# Altium schematic symbol library SCH_IntegratedCircuit.SchLib: 77 symbols
Pins are listed as number, name and electrical type; pins without a type are passive.

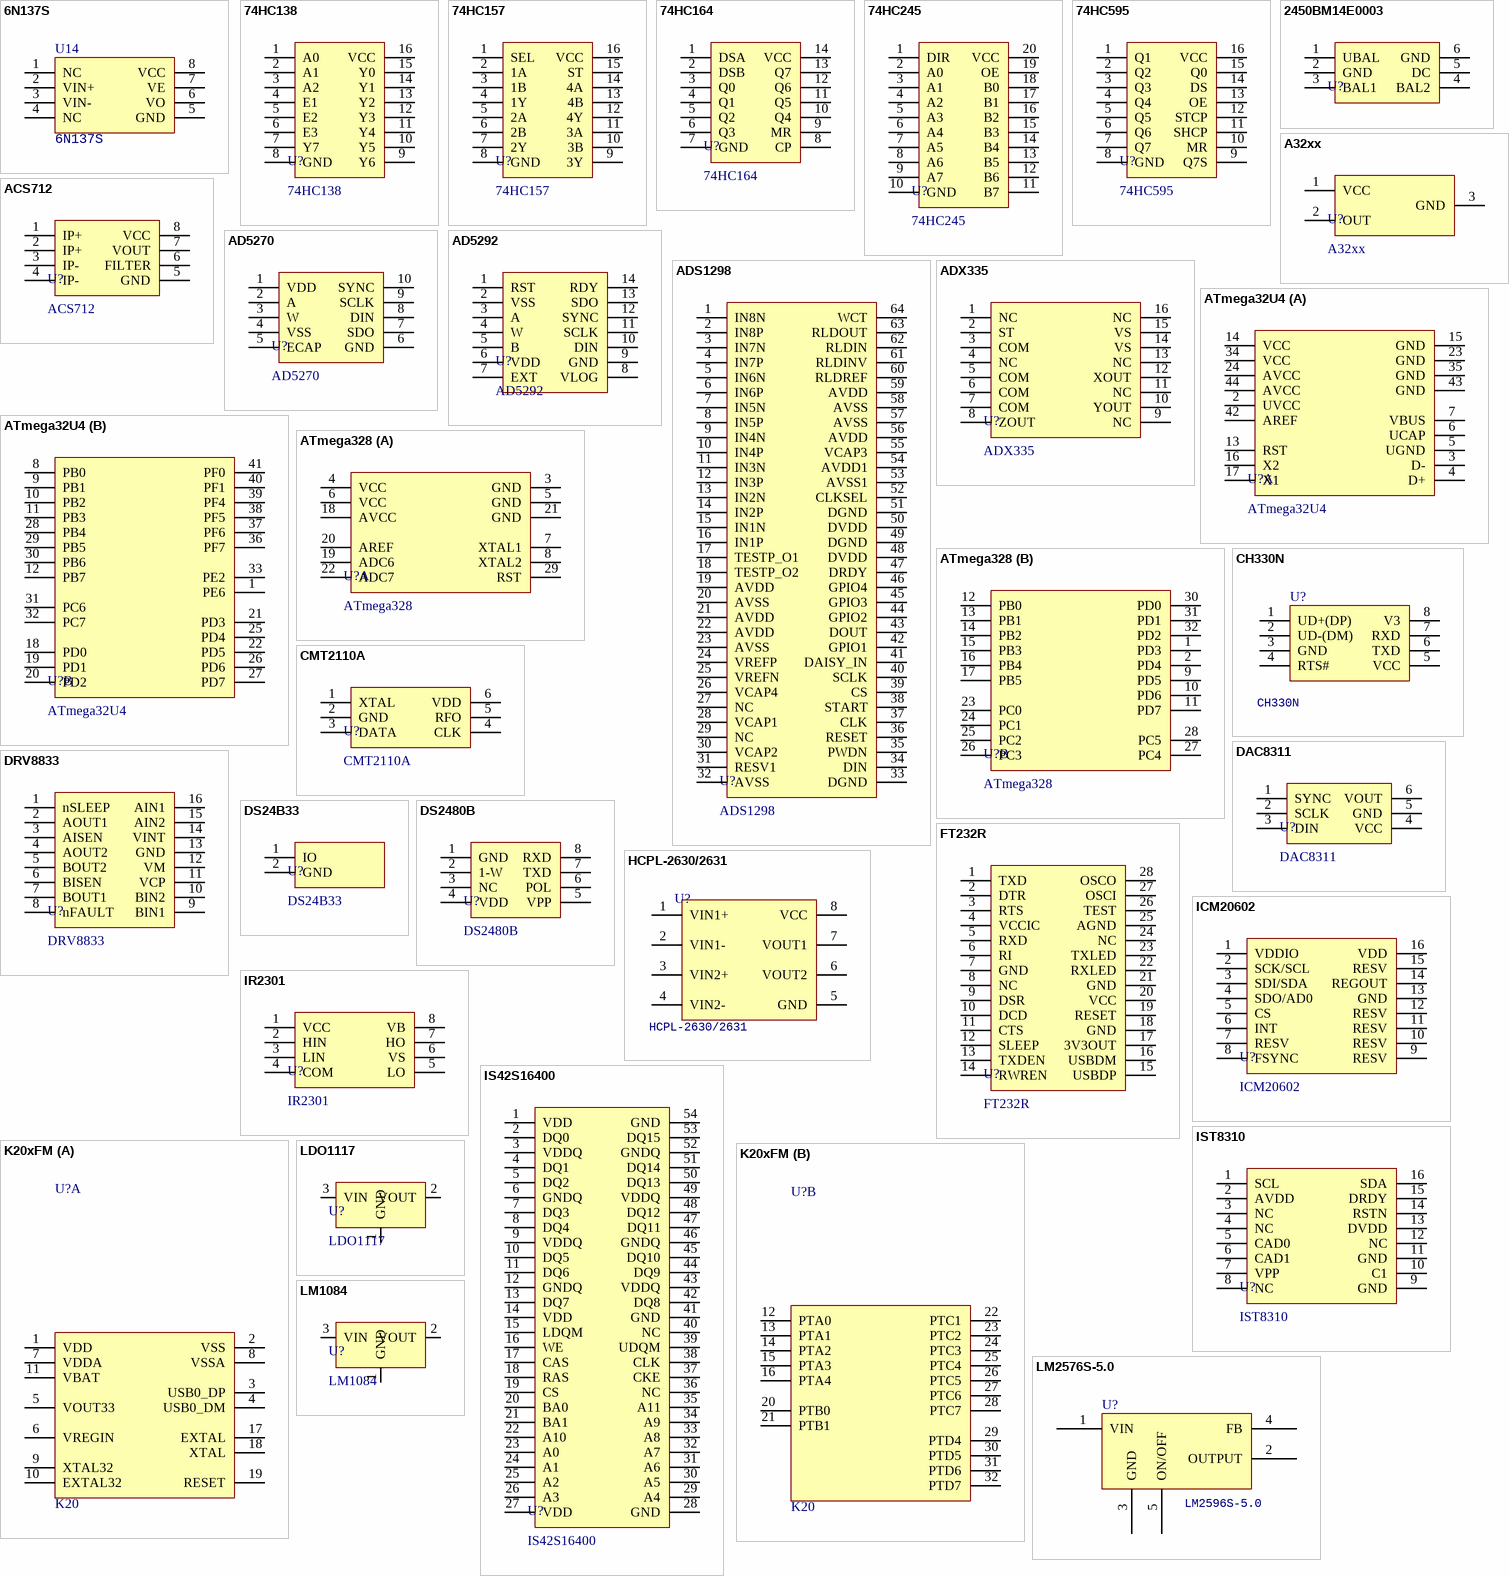
[diagram p0: symbols 6N137S to LM2576S-5.0]

## 6N137S
designator U14
Optoisolator HighSpeed; value: 6N137S
footprint SMD_8
pins: 1 NC, 2 VIN+, 3 VIN-, 4 NC, 5 GND, 6 VO, 7 VE, 8 VCC

## 74HC138
designator U?
74 Series
footprint SOP_E150_16
pins: 1 A0, 2 A1, 3 A2, 4 E1, 5 E2, 6 E3, 7 Y7, 8 GND, 9 Y6, 10 Y5, 11 Y4, 12 Y3, 13 Y2, 14 Y1, 15 Y0, 16 VCC

## 74HC157
designator U?
74 Series
footprint SOP_E150_16
pins: 1 SEL, 2 1A, 3 1B, 4 1Y, 5 2A, 6 2B, 7 2Y, 8 GND, 9 3Y, 10 3B, 11 3A, 12 4Y, 13 4B, 14 4A, 15 ST, 16 VCC

## 74HC164
designator U?
74 Series
footprint SOP_E150_14
pins: 1 DSA, 2 DSB, 3 Q0, 4 Q1, 5 Q2, 6 Q3, 7 GND, 8 CP, 9 MR, 10 Q4, 11 Q5, 12 Q6, 13 Q7, 14 VCC

## 74HC245
designator U?
74 Series
footprint SOP_E300_20
pins: 1 DIR, 2 A0, 3 A1, 4 A2, 5 A3, 6 A4, 7 A5, 8 A6, 9 A7, 10 GND, 11 B7, 12 B6, 13 B5, 14 B4, 15 B3, 16 B2, 17 B1, 18 B0, 19 OE, 20 VCC

## 74HC595
designator U?
74 Series
footprint SOP_E150_16
pins: 1 Q1, 2 Q2, 3 Q3, 4 Q4, 5 Q5, 6 Q6, 7 Q7, 8 GND, 9 Q7S, 10 MR, 11 SHCP, 12 STCP, 13 OE, 14 DS, 15 Q0, 16 VCC

## 2450BM14E0003
designator U?  (value not drawn)
Balun
footprint SMD_E60x30_P0.5_6
pins: 1 UBAL, 2 GND, 3 BAL1, 4 BAL2, 5 DC, 6 GND

## A32xx
designator U?
Sensor Hall
footprint SOT23-3
pins: 1 VCC, 2 OUT, 3 GND

## ACS712
designator U?
Sensor Current
footprint SOP_E150_8
pins: 1 IP+, 2 IP+, 3 IP-, 4 IP-, 5 GND, 6 FILTER, 7 VOUT, 8 VCC

## AD5270
designator U?
Digital Pot
footprint MS5611
pins: 1 VDD, 2 A, 3 W, 4 VSS, 5 ECAP, 6 GND, 7 SDO, 8 DIN, 9 SCLK, 10 SYNC

## AD5292
designator U?
Digital Pot
footprint TSSOP_E170_P0.65_14
pins: 1 RST, 2 VSS, 3 A, 4 W, 5 B, 6 VDD, 7 EXT, 8 VLOG, 9 GND, 10 DIN, 11 SCLK, 12 SYNC, 13 SDO, 14 RDY

## ADS1298
designator U?
ECG
footprint LQFP_P0.5_64
pins: 1 IN8N, 2 IN8P, 3 IN7N, 4 IN7P, 5 IN6N, 6 IN6P, 7 IN5N, 8 IN5P, 9 IN4N, 10 IN4P, 11 IN3N, 12 IN3P, 13 IN2N, 14 IN2P, 15 IN1N, 16 IN1P, 17 TESTP_O1, 18 TESTP_O2, 19 AVDD, 20 AVSS, 21 AVDD, 22 AVDD, 23 AVSS, 24 VREFP, 25 VREFN, 26 VCAP4, 27 NC, 28 VCAP1, 29 NC, 30 VCAP2, 31 RESV1, 32 AVSS, 33 DGND, 34 DIN, 35 PWDN, 36 RESET, 37 CLK, 38 START, 39 CS, 40 SCLK, 41 DAISY_IN, 42 GPIO1, 43 DOUT, 44 GPIO2, 45 GPIO3, 46 GPIO4, 47 DRDY, 48 DVDD, 49 DGND, 50 DVDD, 51 DGND, 52 CLKSEL, 53 AVSS1, 54 AVDD1, 55 VCAP3, 56 AVDD, 57 AVSS, 58 AVSS, 59 AVDD, 60 RLDREF, 61 RLDINV, 62 RLDIN, 63 RLDOUT, 64 WCT

## ADX335
designator U?
Sensor Motion
footprint QFN_P0.65_16
pins: 1 NC, 2 ST, 3 COM, 4 NC, 5 COM, 6 COM, 7 COM, 8 ZOUT, 9 NC, 10 YOUT, 11 NC, 12 XOUT, 13 NC, 14 VS, 15 VS, 16 NC

## ATmega32U4
designator U?
MCU
footprint QFN_P0.5_44
part A pins: 2 UVCC, 3 D-, 4 D+, 5 UGND, 6 UCAP, 7 VBUS, 13 RST, 14 VCC, 15 GND, 16 X2, 17 X1, 23 GND, 24 AVCC, 34 VCC, 35 GND, 42 AREF, 43 GND, 44 AVCC
part B pins: 1 PE6, 8 PB0, 9 PB1, 10 PB2, 11 PB3, 12 PB7, 18 PD0, 19 PD1, 20 PD2, 21 PD3, 22 PD5, 25 PD4, 26 PD6, 27 PD7, 28 PB4, 29 PB5, 30 PB6, 31 PC6, 32 PC7, 33 PE2, 36 PF7, 37 PF6, 38 PF5, 39 PF4, 40 PF1, 41 PF0

## ATmega328
designator U?
MCU
footprint LQFP_P0.8_32
part A pins: 3 GND, 4 VCC, 5 GND, 6 VCC, 7 XTAL1, 8 XTAL2, 18 AVCC, 19 ADC6, 20 AREF, 21 GND, 22 ADC7, 29 RST
part B pins: 1 PD3, 2 PD4, 9 PD5, 10 PD6, 11 PD7, 12 PB0, 13 PB1, 14 PB2, 15 PB3, 16 PB4, 17 PB5, 23 PC0, 24 PC1, 25 PC2, 26 PC3, 27 PC4, 28 PC5, 30 PD0, 31 PD1, 32 PD2

## CH330N
designator U?
USB2UART; type: CH330N
footprint SOP_E150_8
pins: 1 UD+(DP), 2 UD-(DM), 3 GND, 4 RTS#, 5 VCC, 6 TXD, 7 RXD, 8 V3

## CMT2110A
designator U?
RF
footprint SOT23-6
pins: 1 XTAL, 2 GND, 3 DATA, 4 CLK, 5 RFO, 6 VDD

## DAC8311
designator U?
DAC
footprint SOT363-6
pins: 1 SYNC, 2 SCLK, 3 DIN, 4 VCC, 5 GND, 6 VOUT

## DRV8833
designator U?
H-Bridge
footprint TSSOP_E170_P0.65_16
pins: 1 nSLEEP, 2 AOUT1, 3 AISEN, 4 AOUT2, 5 BOUT2, 6 BISEN, 7 BOUT1, 8 nFAULT, 9 BIN1, 10 BIN2, 11 VCP, 12 VM, 13 GND, 14 VINT, 15 AIN2, 16 AIN1

## DS24B33
designator U?
EEPROM
footprint SFN_6x6_2
pins: 1 IO, 2 GND

## DS2480B
designator U?
Serial to 1-Wire
footprint SOP_E150_8
pins: 1 GND, 2 1-W, 3 NC, 4 VDD, 5 VPP, 6 POL, 7 TXD, 8 RXD

## FT232R
designator U?
USB2UART
footprint SSOP_E210_P0.65_28
pins: 1 TXD, 2 DTR, 3 RTS, 4 VCCIC, 5 RXD, 6 RI, 7 GND, 8 NC, 9 DSR, 10 DCD, 11 CTS, 12 SLEEP, 13 TXDEN, 14 RWREN, 15 USBDP, 16 USBDM, 17 3V3OUT, 18 GND, 19 RESET, 20 VCC, 21 GND, 22 RXLED, 23 TXLED, 24 NC, 25 AGND, 26 TEST, 27 OSCI, 28 OSCO

## HCPL-2630/2631
designator U?
High speed Optoisolator; type: HCPL-2630/2631
footprint LC-SMD-8_6.3mm
pins: 1 VIN1+, 2 VIN1-, 3 VIN2+, 4 VIN2-, 5 GND, 6 VOUT2, 7 VOUT1, 8 VCC

## ICM20602
designator U?
Sensor Motion; Type: LGA16 P0.5
footprint LGA_P0.5_16
pins: 1 VDDIO, 2 SCK/SCL, 3 SDI/SDA, 4 SDO/AD0, 5 CS, 6 INT, 7 RESV, 8 FSYNC, 9 RESV, 10 RESV, 11 RESV, 12 RESV, 13 GND, 14 REGOUT, 15 RESV, 16 VDD

## IR2301
designator U?
MOSFET Driver
footprint SOP_E150_8
pins: 1 VCC, 2 HIN, 3 LIN, 4 COM, 5 LO, 6 VS, 7 HO, 8 VB

## IS42S16400
designator U?
SDRAM
footprint TSOP_E400_P0.8_54
pins: 1 VDD, 2 DQ0, 3 VDDQ, 4 DQ1, 5 DQ2, 6 GNDQ, 7 DQ3, 8 DQ4, 9 VDDQ, 10 DQ5, 11 DQ6, 12 GNDQ, 13 DQ7, 14 VDD, 15 LDQM, 16 WE, 17 CAS, 18 RAS, 19 CS, 20 BA0, 21 BA1, 22 A10, 23 A0, 24 A1, 25 A2, 26 A3, 27 VDD, 28 GND, 29 A4, 30 A5, 31 A6, 32 A7, 33 A8, 34 A9, 35 A11, 36 NC, 37 CKE, 38 CLK, 39 UDQM, 40 NC, 41 GND, 42 DQ8, 43 VDDQ, 44 DQ9, 45 DQ10, 46 GNDQ, 47 DQ11, 48 DQ12, 49 VDDQ, 50 DQ13, 51 DQ14, 52 GNDQ, 53 DQ15, 54 GND

## IST8310
designator U?
Sensor Magnetometer; Type: QFN16 P0.5
footprint QFN_P0.5_16
pins: 1 SCL, 2 AVDD, 3 NC, 4 NC, 5 CAD0, 6 CAD1, 7 VPP, 8 NC, 9 GND, 10 C1, 11 GND, 12 NC, 13 DVDD, 14 RSTN, 15 DRDY, 16 SDA

## K20xFM
designator U?, comment K20
MCU
footprint QFN_P0.5_32
part A pins: 1 VDD, 2 VSS, 3 USB0_DP, 4 USB0_DM, 5 VOUT33, 6 VREGIN, 7 VDDA, 8 VSSA, 9 XTAL32, 10 EXTAL32, 11 VBAT, 17 EXTAL, 18 XTAL, 19 RESET
part B pins: 12 PTA0, 13 PTA1, 14 PTA2, 15 PTA3, 16 PTA4, 20 PTB0, 21 PTB1, 22 PTC1, 23 PTC2, 24 PTC3, 25 PTC4, 26 PTC5, 27 PTC6, 28 PTC7, 29 PTD4, 30 PTD5, 31 PTD6, 32 PTD7

## LDO1117
designator U?
Power; Type: SOT223-3
footprint SOT223-3
footprint SOT89-3
pins: 1 GND, 2 VOUT, 3 VIN

## LM1084
designator U?
Power
footprint TO-263-3
pins: 1 GND, 2 VOUT (power), 3 VIN

## LM2576S-5.0
designator U?, comment LM2596S-5.0
Power; type: LM2596S-5.0
footprint TO-263-5
pins: 1 VIN, 2 OUTPUT, 3 GND, 4 FB, 5 ON/OFF
2 alternate drawings of the same symbol

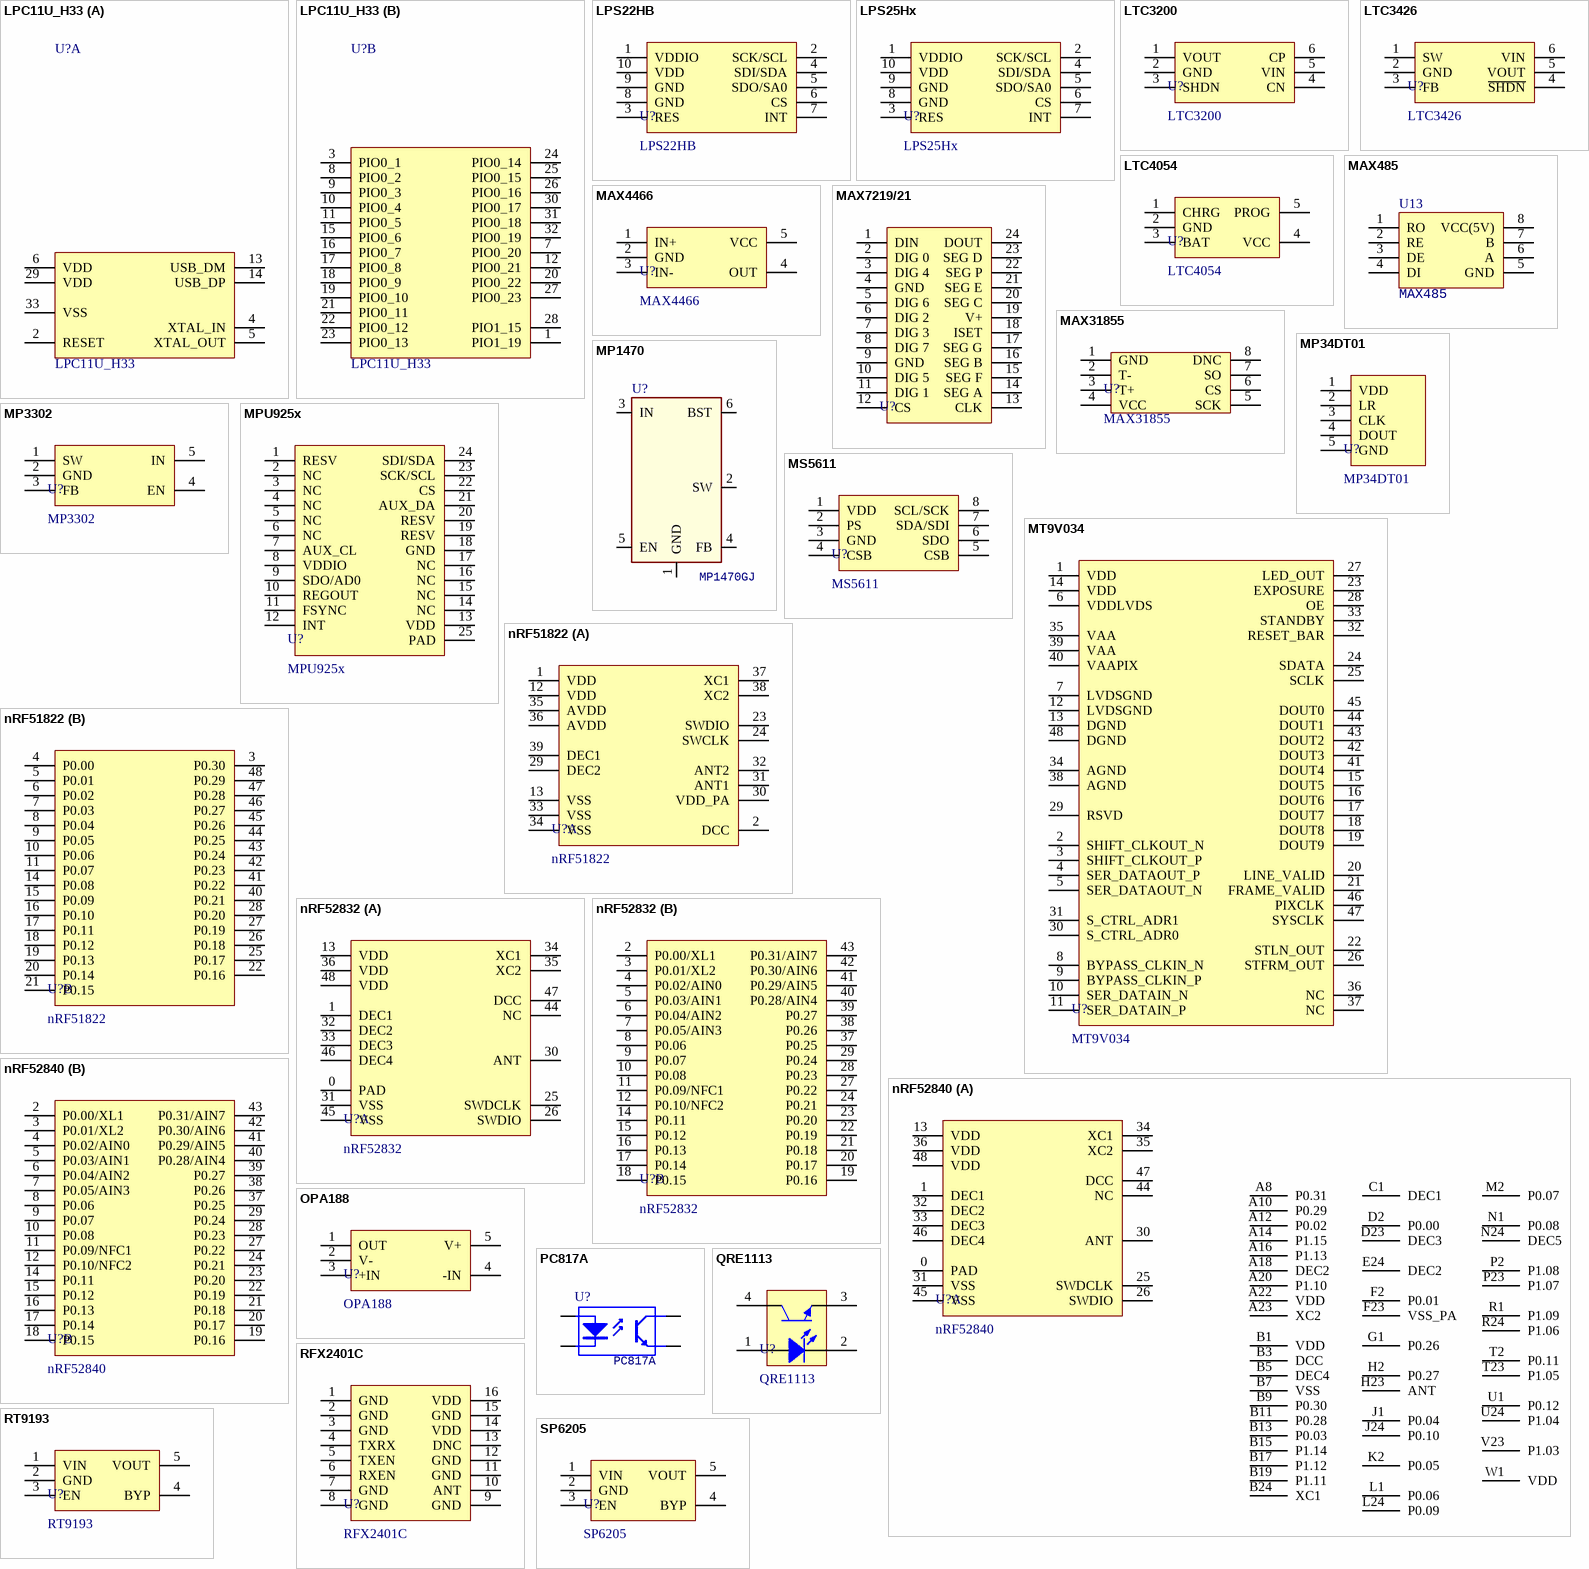
[diagram p1: symbols LPC11U_H33 to SP6205]

## LPC11U_H33
designator U?
MCU
footprint QFN_P0.5_32
part A pins: 2 RESET, 4 XTAL_IN, 5 XTAL_OUT, 6 VDD, 13 USB_DM, 14 USB_DP, 29 VDD, 33 VSS
part B pins: 1 PIO1_19, 3 PIO0_1, 7 PIO0_20, 8 PIO0_2, 9 PIO0_3, 10 PIO0_4, 11 PIO0_5, 12 PIO0_21, 15 PIO0_6, 16 PIO0_7, 17 PIO0_8, 18 PIO0_9, 19 PIO0_10, 20 PIO0_22, 21 PIO0_11, 22 PIO0_12, 23 PIO0_13, 24 PIO0_14, 25 PIO0_15, 26 PIO0_16, 27 PIO0_23, 28 PIO1_15, 30 PIO0_17, 31 PIO0_18, 32 PIO0_19

## LPS22HB
designator U?
Sensor Pressure; Type: LGA10 P0.5
footprint HCLGA-2x2_10
pins: 1 VDDIO, 2 SCK/SCL, 3 RES, 4 SDI/SDA, 5 SDO/SA0, 6 CS, 7 INT, 8 GND, 9 GND, 10 VDD

## LPS25Hx
designator U?
Sensor Pressure
footprint HCLGA-2.5x2.5_10
pins: 1 VDDIO, 2 SCK/SCL, 3 RES, 4 SDI/SDA, 5 SDO/SA0, 6 CS, 7 INT, 8 GND, 9 GND, 10 VDD

## LTC3200
designator U?
Power; Type: SOT23-6
footprint SOT23-6
pins: 1 VOUT, 2 GND, 3 SHDN, 4 CN, 5 VIN, 6 CP

## LTC3426
designator U?
Power; Type: SOT23-6
footprint SOT23-6
pins: 1 SW, 2 GND, 3 FB, 4 ~{SHDN}, 5 VOUT, 6 VIN

## LTC4054
designator U?
Charge
footprint SOT23-5
pins: 1 CHRG, 2 GND, 3 BAT, 4 VCC, 5 PROG

## MAX485
designator U13
value: MAX485
footprint SOP_E150_8
pins: 1 RO, 2 RE, 3 DE (power), 4 DI, 5 GND, 6 A, 7 B, 8 VCC(5V)

## MAX4466
designator U?
Microphone
footprint SOT23-5
pins: 1 IN+, 2 GND, 3 IN-, 4 OUT, 5 VCC

## MAX7219/21
designator U?  (value not drawn)
Driver
footprint SOP_E300_24
pins: 1 DIN, 2 DIG 0, 3 DIG 4, 4 GND, 5 DIG 6, 6 DIG 2, 7 DIG 3, 8 DIG 7, 9 GND, 10 DIG 5, 11 DIG 1, 12 CS, 13 CLK, 14 SEG A, 15 SEG F, 16 SEG B, 17 SEG G, 18 ISET, 19 V+, 20 SEG C, 21 SEG E, 22 SEG P, 23 SEG D, 24 DOUT

## MAX31855
designator U?
Thermocouple
footprint SOIC_E200_8
pins: 1 GND, 2 T-, 3 T+, 4 VCC, 5 SCK, 6 CS, 7 SO, 8 DNC

## MP34DT01
designator U?
Sensor Microphone
footprint HCLGA_3x4_4
pins: 1 VDD, 2 LR, 3 CLK, 4 DOUT, 5 GND

## MP1470
designator U?, comment MP1470GJ
Power; type: MP1470GJ
footprint TSOT23-6
pins: 1 GND, 2 SW, 3 IN, 4 FB, 5 EN, 6 BST

## MP3302
designator U?
WLED Driver
footprint SOT23-5
pins: 1 SW, 2 GND, 3 FB, 4 EN, 5 IN

## MPU925x
designator U?
Sensor Motion; Type: QFN24 P0.4
footprint QFN_P0.4_24
pins: 1 RESV, 2 NC, 3 NC, 4 NC, 5 NC, 6 NC, 7 AUX_CL, 8 VDDIO, 9 SDO/AD0, 10 REGOUT, 11 FSYNC, 12 INT, 13 VDD, 14 NC, 15 NC, 16 NC, 17 NC, 18 GND, 19 RESV, 20 RESV, 21 AUX_DA, 22 CS, 23 SCK/SCL, 24 SDI/SDA, 25 PAD

## MS5611
designator U?
Sensor
footprint OTHER_MS5611_8
pins: 1 VDD, 2 PS, 3 GND, 4 CSB, 5 CSB, 6 SDO, 7 SDA/SDI, 8 SCL/SCK

## MT9V034
designator U?
CMOS
footprint CLCC_48 (LCC, 48-Pins, Body 11.43x11.43mmx2.30mm, Pitch 0.80mm, IPC Medium Density)
pins: 1 VDD, 2 SHIFT_CLKOUT_N, 3 SHIFT_CLKOUT_P, 4 SER_DATAOUT_P, 5 SER_DATAOUT_N, 6 VDDLVDS, 7 LVDSGND, 8 BYPASS_CLKIN_N, 9 BYPASS_CLKIN_P, 10 SER_DATAIN_N, 11 SER_DATAIN_P, 12 LVDSGND, 13 DGND, 14 VDD, 15 DOUT5, 16 DOUT6, 17 DOUT7, 18 DOUT8, 19 DOUT9, 20 LINE_VALID, 21 FRAME_VALID, 22 STLN_OUT, 23 EXPOSURE, 24 SDATA, 25 SCLK, 26 STFRM_OUT, 27 LED_OUT, 28 OE, 29 RSVD, 30 S_CTRL_ADR0, 31 S_CTRL_ADR1, 32 RESET_BAR, 33 STANDBY, 34 AGND, 35 VAA, 36 NC, 37 NC, 38 AGND, 39 VAA, 40 VAAPIX, 41 DOUT4, 42 DOUT3, 43 DOUT2, 44 DOUT1, 45 DOUT0, 46 PIXCLK, 47 SYSCLK, 48 DGND

## nRF51822
designator U?
MCU
footprint QFN_P0.4_48
part A pins: 1 VDD, 2 DCC, 12 VDD, 13 VSS, 23 SWDIO, 24 SWCLK, 29 DEC2, 30 VDD_PA, 31 ANT1, 32 ANT2, 33 VSS, 34 VSS, 35 AVDD, 36 AVDD, 37 XC1, 38 XC2, 39 DEC1
part B pins: 3 P0.30, 4 P0.00, 5 P0.01, 6 P0.02, 7 P0.03, 8 P0.04, 9 P0.05, 10 P0.06, 11 P0.07, 14 P0.08, 15 P0.09, 16 P0.10, 17 P0.11, 18 P0.12, 19 P0.13, 20 P0.14, 21 P0.15, 22 P0.16, 25 P0.17, 26 P0.18, 27 P0.19, 28 P0.20, 40 P0.21, 41 P0.22, 42 P0.23, 43 P0.24, 44 P0.25, 45 P0.26, 46 P0.27, 47 P0.28, 48 P0.29

## nRF52832
designator U?
MCU
footprint QFN_P0.4_48
part A pins: 0 PAD, 1 DEC1, 13 VDD, 25 SWDCLK, 26 SWDIO, 30 ANT, 31 VSS, 32 DEC2, 33 DEC3, 34 XC1, 35 XC2, 36 VDD, 44 NC, 45 VSS, 46 DEC4, 47 DCC, 48 VDD
part B pins: 2 P0.00/XL1, 3 P0.01/XL2, 4 P0.02/AIN0, 5 P0.03/AIN1, 6 P0.04/AIN2, 7 P0.05/AIN3, 8 P0.06, 9 P0.07, 10 P0.08, 11 P0.09/NFC1, 12 P0.10/NFC2, 14 P0.11, 15 P0.12, 16 P0.13, 17 P0.14, 18 P0.15, 19 P0.16, 20 P0.17, 21 P0.18, 22 P0.19, 23 P0.20, 24 P0.21, 27 P0.22, 28 P0.23, 29 P0.24, 37 P0.25, 38 P0.26, 39 P0.27, 40 P0.28/AIN4, 41 P0.29/AIN5, 42 P0.30/AIN6, 43 P0.31/AIN7

## nRF52840
designator U?
MCU
footprint AQFN_P0.5_73
part A pins: 0 PAD, 1 DEC1, 13 VDD, 25 SWDCLK, 26 SWDIO, 30 ANT, 31 VSS, 32 DEC2, 33 DEC3, 34 XC1, 35 XC2, 36 VDD, 44 NC, 45 VSS, 46 DEC4, 47 DCC, 48 VDD, A8 P0.31, A10 P0.29, A12 P0.02, A14 P1.15, A16 P1.13, A18 DEC2, A20 P1.10, A22 VDD, A23 XC2, B1 VDD, B3 DCC, B5 DEC4, B7 VSS, B9 P0.30, B11 P0.28, B13 P0.03, B15 P1.14, B17 P1.12, B19 P1.11, B24 XC1, C1 DEC1, D2 P0.00, D23 DEC3, E24 DEC2, F2 P0.01, F23 VSS_PA, G1 P0.26, H2 P0.27, H23 ANT, J1 P0.04, J24 P0.10, K2 P0.05, L1 P0.06, L24 P0.09, M2 P0.07, N1 P0.08, N24 DEC5, P2 P1.08, P23 P1.07, R1 P1.09, R24 P1.06, T2 P0.11, T23 P1.05, U1 P0.12, U24 P1.04, V23 P1.03, W1 VDD
part B pins: 2 P0.00/XL1, 3 P0.01/XL2, 4 P0.02/AIN0, 5 P0.03/AIN1, 6 P0.04/AIN2, 7 P0.05/AIN3, 8 P0.06, 9 P0.07, 10 P0.08, 11 P0.09/NFC1, 12 P0.10/NFC2, 14 P0.11, 15 P0.12, 16 P0.13, 17 P0.14, 18 P0.15, 19 P0.16, 20 P0.17, 21 P0.18, 22 P0.19, 23 P0.20, 24 P0.21, 27 P0.22, 28 P0.23, 29 P0.24, 37 P0.25, 38 P0.26, 39 P0.27, 40 P0.28/AIN4, 41 P0.29/AIN5, 42 P0.30/AIN6, 43 P0.31/AIN7

## OPA188
designator U?
OP
footprint SOT23-5
pins: 1 OUT, 2 V-, 3 +IN, 4 -IN, 5 V+

## PC817A
designator U?
Optoisolator; type: PC817A
footprint EL817
pins: 1, 2, 3, 4

## QRE1113
designator U?
Sensor IR
footprint QRE1113GR
pins: 1 A, 2 C, 3 E, 4 C

## RFX2401C
designator U?
RF
footprint QFN_P0.5_16
pins: 1 GND, 2 GND, 3 GND, 4 TXRX, 5 TXEN, 6 RXEN, 7 GND, 8 GND, 9 GND, 10 ANT, 11 GND, 12 GND, 13 DNC, 14 VDD, 15 GND, 16 VDD

## RT9193
designator U?
Power; Type: SOT23-5
footprint SOT23-5
pins: 1 VIN, 2 GND, 3 EN (power), 4 BYP, 5 VOUT

## SP6205
designator U?
Power; Type: SOT23-5
footprint SOT23-5
pins: 1 VIN, 2 GND, 3 EN (power), 4 BYP, 5 VOUT

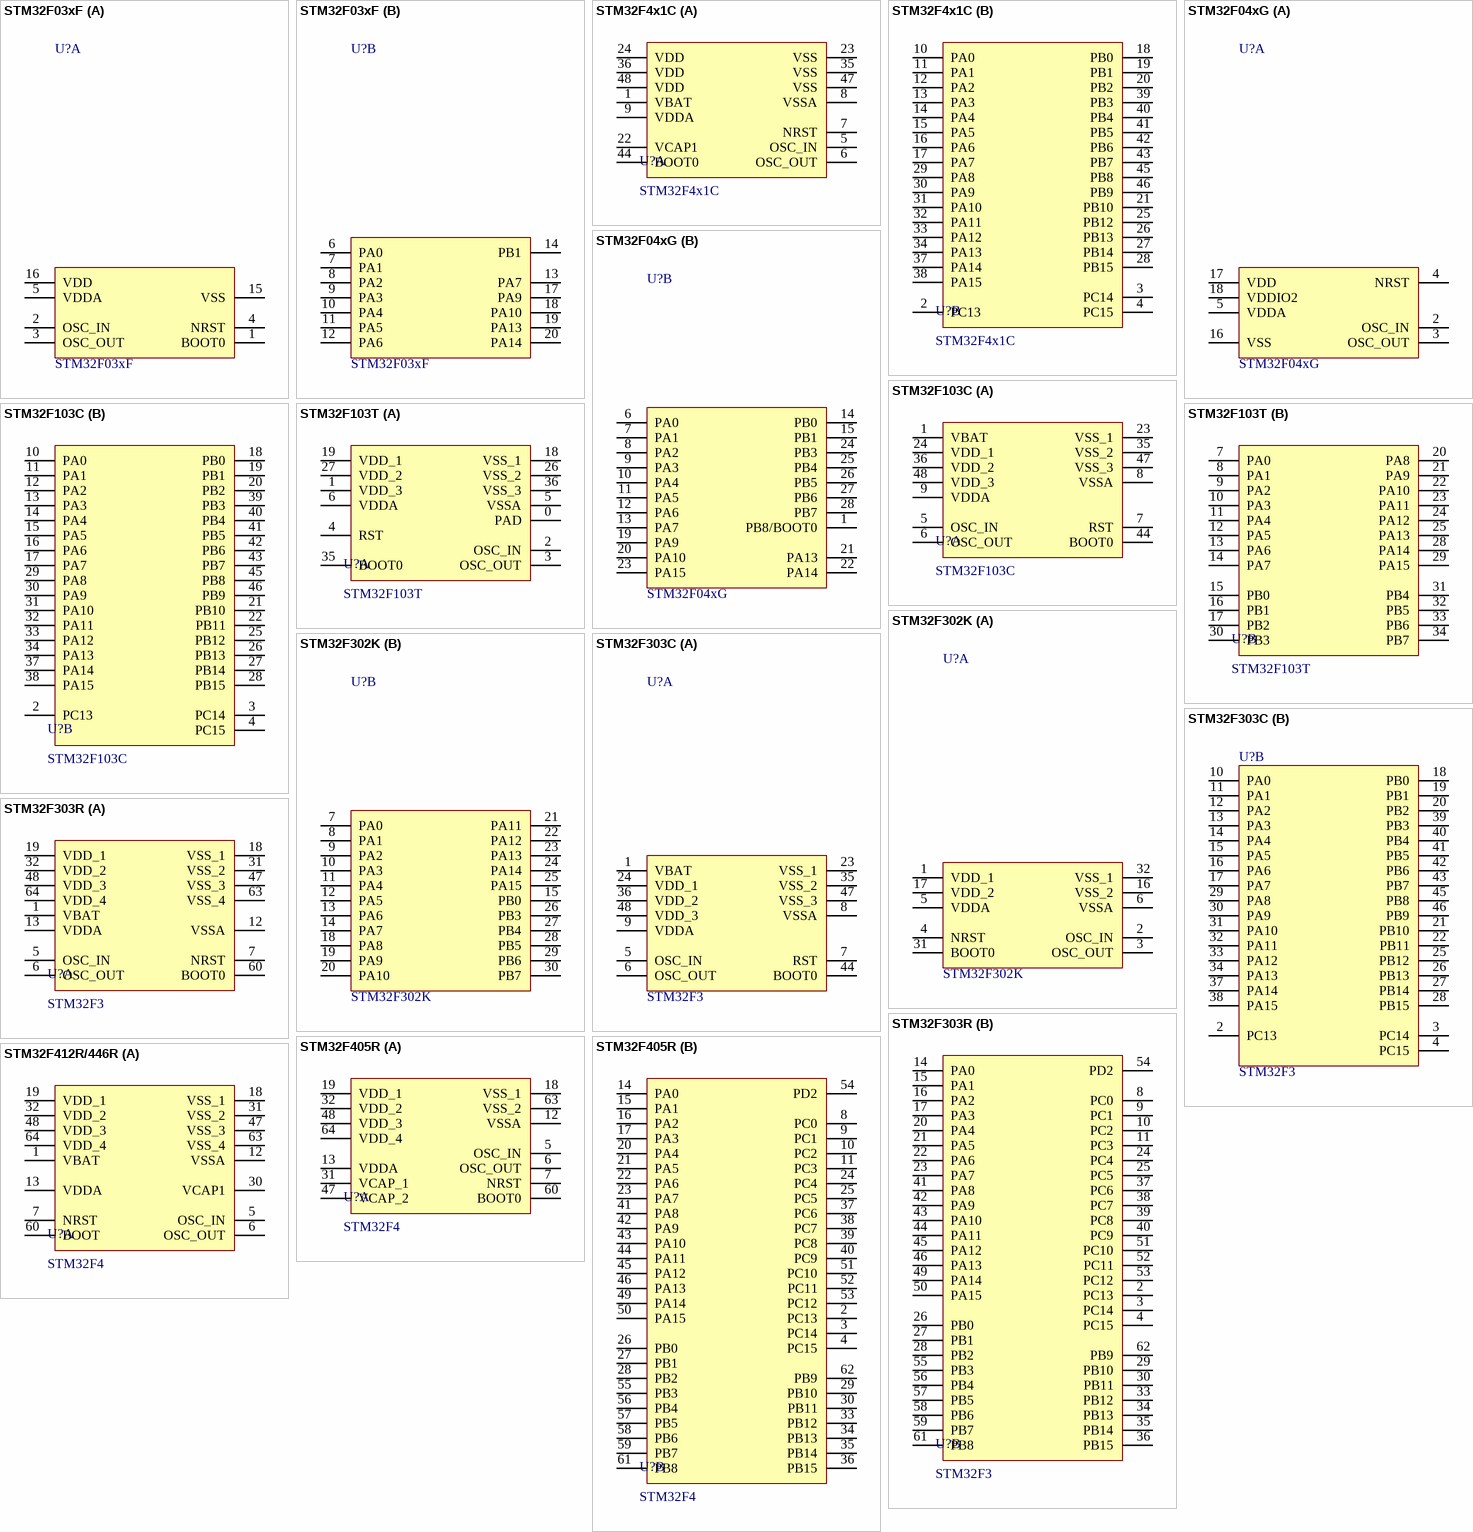
[diagram p2: symbols STM32F03xF to STM32F412R/446R]

## STM32F03xF
designator U?
MCU
footprint TSSOP_E170_P0.65_20
part A pins: 1 BOOT0, 2 OSC_IN, 3 OSC_OUT, 4 NRST, 5 VDDA, 15 VSS, 16 VDD
part B pins: 6 PA0, 7 PA1, 8 PA2, 9 PA3, 10 PA4, 11 PA5, 12 PA6, 13 PA7, 14 PB1, 17 PA9, 18 PA10, 19 PA13, 20 PA14

## STM32F4x1C
designator U?
MCU; Type: QFN48 P0.5
footprint QFN_P0.5_48
part A pins: 1 VBAT, 5 OSC_IN, 6 OSC_OUT, 7 NRST, 8 VSSA, 9 VDDA, 22 VCAP1, 23 VSS, 24 VDD, 35 VSS, 36 VDD, 44 BOOT0, 47 VSS, 48 VDD
part B pins: 2 PC13, 3 PC14, 4 PC15, 10 PA0, 11 PA1, 12 PA2, 13 PA3, 14 PA4, 15 PA5, 16 PA6, 17 PA7, 18 PB0, 19 PB1, 20 PB2, 21 PB10, 25 PB12, 26 PB13, 27 PB14, 28 PB15, 29 PA8, 30 PA9, 31 PA10, 32 PA11, 33 PA12, 34 PA13, 37 PA14, 38 PA15, 39 PB3, 40 PB4, 41 PB5, 42 PB6, 43 PB7, 45 PB8, 46 PB9

## STM32F04xG
designator U?
MCU
footprint QFN_P0.5_28
part A pins: 2 OSC_IN, 3 OSC_OUT, 4 NRST, 5 VDDA, 16 VSS, 17 VDD, 18 VDDIO2
part B pins: 1 PB8/BOOT0, 6 PA0, 7 PA1, 8 PA2, 9 PA3, 10 PA4, 11 PA5, 12 PA6, 13 PA7, 14 PB0, 15 PB1, 19 PA9, 20 PA10, 21 PA13, 22 PA14, 23 PA15, 24 PB3, 25 PB4, 26 PB5, 27 PB6, 28 PB7

## STM32F103C
designator U?
MCU; Type: LQFP48 P0.5
footprint LQFP_P0.5_48
part A pins: 1 VBAT, 5 OSC_IN, 6 OSC_OUT, 7 RST, 8 VSSA, 9 VDDA, 23 VSS_1, 24 VDD_1, 35 VSS_2, 36 VDD_2, 44 BOOT0, 47 VSS_3, 48 VDD_3
part B pins: 2 PC13, 3 PC14, 4 PC15, 10 PA0, 11 PA1, 12 PA2, 13 PA3, 14 PA4, 15 PA5, 16 PA6, 17 PA7, 18 PB0, 19 PB1, 20 PB2, 21 PB10, 22 PB11, 25 PB12, 26 PB13, 27 PB14, 28 PB15, 29 PA8, 30 PA9, 31 PA10, 32 PA11, 33 PA12, 34 PA13, 37 PA14, 38 PA15, 39 PB3, 40 PB4, 41 PB5, 42 PB6, 43 PB7, 45 PB8, 46 PB9

## STM32F103T
designator U?
MCU; Type: QFN36 P0.5
footprint QFN_P0.5_36
part A pins: 0 PAD, 1 VDD_3, 2 OSC_IN, 3 OSC_OUT, 4 RST, 5 VSSA, 6 VDDA, 18 VSS_1, 19 VDD_1, 26 VSS_2, 27 VDD_2, 35 BOOT0, 36 VSS_3
part B pins: 7 PA0, 8 PA1, 9 PA2, 10 PA3, 11 PA4, 12 PA5, 13 PA6, 14 PA7, 15 PB0, 16 PB1, 17 PB2, 20 PA8, 21 PA9, 22 PA10, 23 PA11, 24 PA12, 25 PA13, 28 PA14, 29 PA15, 30 PB3, 31 PB4, 32 PB5, 33 PB6, 34 PB7

## STM32F302K
designator U?
MCU
footprint QFN_P0.5_32
part A pins: 1 VDD_1, 2 OSC_IN, 3 OSC_OUT, 4 NRST, 5 VDDA, 6 VSSA, 16 VSS_2, 17 VDD_2, 31 BOOT0, 32 VSS_1
part B pins: 7 PA0, 8 PA1, 9 PA2, 10 PA3, 11 PA4, 12 PA5, 13 PA6, 14 PA7, 15 PB0, 18 PA8, 19 PA9, 20 PA10, 21 PA11, 22 PA12, 23 PA13, 24 PA14, 25 PA15, 26 PB3, 27 PB4, 28 PB5, 29 PB6, 30 PB7

## STM32F303C
designator U?, comment STM32F3
MCU
footprint LQFP_P0.5_48
part A pins: 1 VBAT, 5 OSC_IN, 6 OSC_OUT, 7 RST, 8 VSSA, 9 VDDA, 23 VSS_1, 24 VDD_1, 35 VSS_2, 36 VDD_2, 44 BOOT0, 47 VSS_3, 48 VDD_3
part B pins: 2 PC13, 3 PC14, 4 PC15, 10 PA0, 11 PA1, 12 PA2, 13 PA3, 14 PA4, 15 PA5, 16 PA6, 17 PA7, 18 PB0, 19 PB1, 20 PB2, 21 PB10, 22 PB11, 25 PB12, 26 PB13, 27 PB14, 28 PB15, 29 PA8, 30 PA9, 31 PA10, 32 PA11, 33 PA12, 34 PA13, 37 PA14, 38 PA15, 39 PB3, 40 PB4, 41 PB5, 42 PB6, 43 PB7, 45 PB8, 46 PB9

## STM32F303R
designator U?, comment STM32F3
MCU
footprint LQFP_P0.5_64
part A pins: 1 VBAT, 5 OSC_IN, 6 OSC_OUT, 7 NRST, 12 VSSA, 13 VDDA, 18 VSS_1, 19 VDD_1, 31 VSS_2, 32 VDD_2, 47 VSS_3, 48 VDD_3, 60 BOOT0, 63 VSS_4, 64 VDD_4
part B pins: 2 PC13, 3 PC14, 4 PC15, 8 PC0, 9 PC1, 10 PC2, 11 PC3, 14 PA0, 15 PA1, 16 PA2, 17 PA3, 20 PA4, 21 PA5, 22 PA6, 23 PA7, 24 PC4, 25 PC5, 26 PB0, 27 PB1, 28 PB2, 29 PB10, 30 PB11, 33 PB12, 34 PB13, 35 PB14, 36 PB15, 37 PC6, 38 PC7, 39 PC8, 40 PC9, 41 PA8, 42 PA9, 43 PA10, 44 PA11, 45 PA12, 46 PA13, 49 PA14, 50 PA15, 51 PC10, 52 PC11, 53 PC12, 54 PD2, 55 PB3, 56 PB4, 57 PB5, 58 PB6, 59 PB7, 61 PB8, 62 PB9

## STM32F405R
designator U?, comment STM32F4
MCU
footprint LQFP_P0.5_64
part A pins: 5 OSC_IN, 6 OSC_OUT, 7 NRST, 12 VSSA, 13 VDDA, 18 VSS_1, 19 VDD_1, 31 VCAP_1, 32 VDD_2, 47 VCAP_2, 48 VDD_3, 60 BOOT0, 63 VSS_2, 64 VDD_4
part B pins: 2 PC13, 3 PC14, 4 PC15, 8 PC0, 9 PC1, 10 PC2, 11 PC3, 14 PA0, 15 PA1, 16 PA2, 17 PA3, 20 PA4, 21 PA5, 22 PA6, 23 PA7, 24 PC4, 25 PC5, 26 PB0, 27 PB1, 28 PB2, 29 PB10, 30 PB11, 33 PB12, 34 PB13, 35 PB14, 36 PB15, 37 PC6, 38 PC7, 39 PC8, 40 PC9, 41 PA8, 42 PA9, 43 PA10, 44 PA11, 45 PA12, 46 PA13, 49 PA14, 50 PA15, 51 PC10, 52 PC11, 53 PC12, 54 PD2, 55 PB3, 56 PB4, 57 PB5, 58 PB6, 59 PB7, 61 PB8, 62 PB9

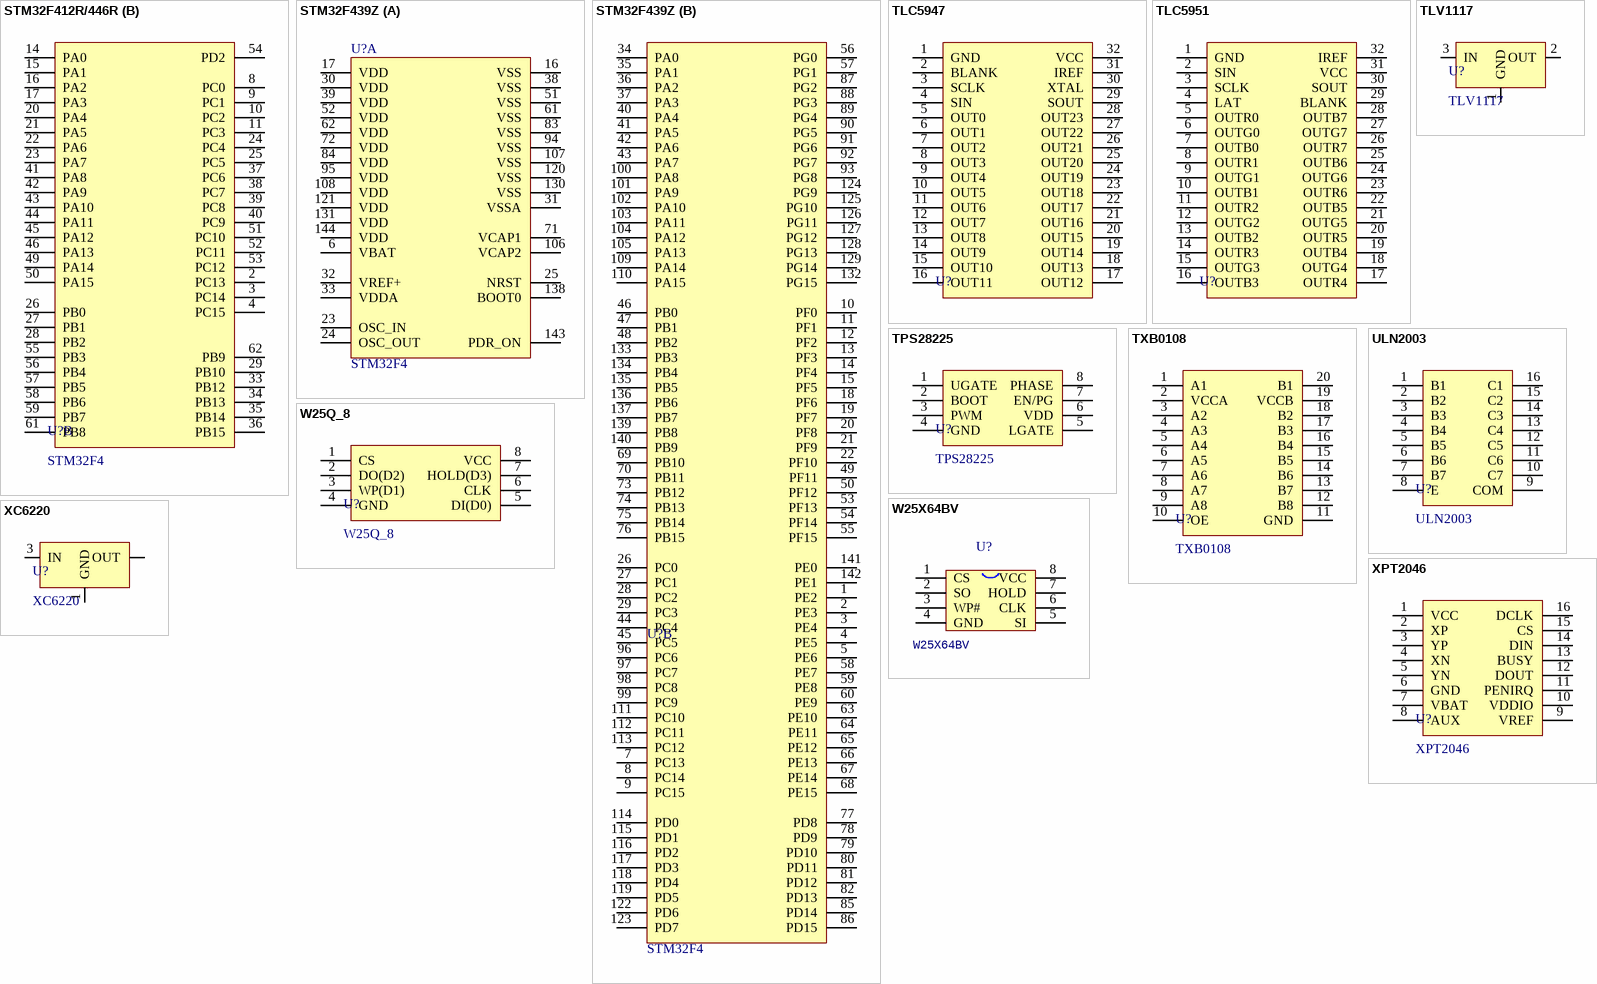
[diagram p3: symbols STM32F412R/446R to XPT2046]

## STM32F412R/446R
designator U?, comment STM32F4
MCU
footprint LQFP_P0.5_64
part A pins: 1 VBAT, 5 OSC_IN, 6 OSC_OUT, 7 NRST, 12 VSSA, 13 VDDA, 18 VSS_1, 19 VDD_1, 30 VCAP1, 31 VSS_2, 32 VDD_2, 47 VSS_3, 48 VDD_3, 60 BOOT, 63 VSS_4, 64 VDD_4
part B pins: 2 PC13, 3 PC14, 4 PC15, 8 PC0, 9 PC1, 10 PC2, 11 PC3, 14 PA0, 15 PA1, 16 PA2, 17 PA3, 20 PA4, 21 PA5, 22 PA6, 23 PA7, 24 PC4, 25 PC5, 26 PB0, 27 PB1, 28 PB2, 29 PB10, 33 PB12, 34 PB13, 35 PB14, 36 PB15, 37 PC6, 38 PC7, 39 PC8, 40 PC9, 41 PA8, 42 PA9, 43 PA10, 44 PA11, 45 PA12, 46 PA13, 49 PA14, 50 PA15, 51 PC10, 52 PC11, 53 PC12, 54 PD2, 55 PB3, 56 PB4, 57 PB5, 58 PB6, 59 PB7, 61 PB8, 62 PB9

## STM32F439Z
designator U?, comment STM32F4
MCU
footprint LQFP_P0.5_144
part A pins: 6 VBAT, 16 VSS, 17 VDD, 23 OSC_IN, 24 OSC_OUT, 25 NRST, 30 VDD, 31 VSSA, 32 VREF+, 33 VDDA, 38 VSS, 39 VDD, 51 VSS, 52 VDD, 61 VSS, 62 VDD, 71 VCAP1, 72 VDD, 83 VSS, 84 VDD, 94 VSS, 95 VDD, 106 VCAP2, 107 VSS, 108 VDD, 120 VSS, 121 VDD, 130 VSS, 131 VDD, 138 BOOT0, 143 PDR_ON, 144 VDD
part B pins: 1 PE2, 2 PE3, 3 PE4, 4 PE5, 5 PE6, 7 PC13, 8 PC14, 9 PC15, 10 PF0, 11 PF1, 12 PF2, 13 PF3, 14 PF4, 15 PF5, 18 PF6, 19 PF7, 20 PF8, 21 PF9, 22 PF10, 26 PC0, 27 PC1, 28 PC2, 29 PC3, 34 PA0, 35 PA1, 36 PA2, 37 PA3, 40 PA4, 41 PA5, 42 PA6, 43 PA7, 44 PC4, 45 PC5, 46 PB0, 47 PB1, 48 PB2, 49 PF11, 50 PF12, 53 PF13, 54 PF14, 55 PF15, 56 PG0, 57 PG1, 58 PE7, 59 PE8, 60 PE9, 63 PE10, 64 PE11, 65 PE12, 66 PE13, 67 PE14, 68 PE15, 69 PB10, 70 PB11, 73 PB12, 74 PB13, 75 PB14, 76 PB15, 77 PD8, 78 PD9, 79 PD10, 80 PD11, 81 PD12, 82 PD13, 85 PD14, 86 PD15, 87 PG2, 88 PG3, 89 PG4, 90 PG5, 91 PG6, 92 PG7, 93 PG8, 96 PC6, 97 PC7, 98 PC8, 99 PC9, 100 PA8, 101 PA9, 102 PA10, 103 PA11, 104 PA12, 105 PA13, 109 PA14, 110 PA15, 111 PC10, 112 PC11, 113 PC12, 114 PD0, 115 PD1, 116 PD2, 117 PD3, 118 PD4, 119 PD5, 122 PD6, 123 PD7, 124 PG9, 125 PG10, 126 PG11, 127 PG12, 128 PG13, 129 PG14, 132 PG15, 133 PB3, 134 PB4, 135 PB5, 136 PB6, 137 PB7, 139 PB8, 140 PB9, 141 PE0, 142 PE1

## TLC5947
designator U?  (value not drawn)
LED Driver
footprint TSSOP_E250H_P0.65_32
pins: 1 GND, 2 BLANK, 3 SCLK, 4 SIN, 5 OUT0, 6 OUT1, 7 OUT2, 8 OUT3, 9 OUT4, 10 OUT5, 11 OUT6, 12 OUT7, 13 OUT8, 14 OUT9, 15 OUT10, 16 OUT11, 17 OUT12, 18 OUT13, 19 OUT14, 20 OUT15, 21 OUT16, 22 OUT17, 23 OUT18, 24 OUT19, 25 OUT20, 26 OUT21, 27 OUT22, 28 OUT23, 29 SOUT, 30 XTAL, 31 IREF, 32 VCC

## TLC5951
designator U?  (value not drawn)
LED Driver
footprint TSSOP_E250H_P0.65_32
pins: 1 GND, 2 SIN, 3 SCLK, 4 LAT, 5 OUTR0, 6 OUTG0, 7 OUTB0, 8 OUTR1, 9 OUTG1, 10 OUTB1, 11 OUTR2, 12 OUTG2, 13 OUTB2, 14 OUTR3, 15 OUTG3, 16 OUTB3, 17 OUTR4, 18 OUTG4, 19 OUTB4, 20 OUTR5, 21 OUTG5, 22 OUTB5, 23 OUTR6, 24 OUTG6, 25 OUTB6, 26 OUTR7, 27 OUTG7, 28 OUTB7, 29 BLANK, 30 SOUT, 31 VCC, 32 IREF

## TLV1117
designator U?
Power
footprint SOT223-3
pins: 1 GND (power), 2 OUT (power), 3 IN (power)

## TPS28225
designator U?
MOSFET Driver
footprint SOP_E150_8
pins: 1 UGATE, 2 BOOT, 3 PWM, 4 GND, 5 LGATE, 6 VDD, 7 EN/PG, 8 PHASE

## TXB0108
designator U?
VoltageLevel
footprint TSSOP_E170_P0.65_20
pins: 1 A1, 2 VCCA, 3 A2, 4 A3, 5 A4, 6 A5, 7 A6, 8 A7, 9 A8, 10 OE, 11 GND, 12 B8, 13 B7, 14 B6, 15 B5, 16 B4, 17 B3, 18 B2, 19 VCCB, 20 B1

## ULN2003
designator U?
Driver
footprint SOP_E150_16
footprint DIP_300_16
pins: 1 B1, 2 B2, 3 B3, 4 B4, 5 B5, 6 B6, 7 B7, 8 E, 9 COM, 10 C7, 11 C6, 12 C5, 13 C4, 14 C3, 15 C2, 16 C1

## W25Q_8
designator U?
FLASH
footprint SOIC_E200_8
footprint SON_P1.27H_8 (SON, 8-Leads, Body 5.00x6.00mm, Pitch 1.27mm, Thermal Pad 3.40x4.30mm, IPC High Density)
pins: 1 CS, 2 DO(D2), 3 WP(D1), 4 GND, 5 DI(D0), 6 CLK, 7 HOLD(D3), 8 VCC

## W25X64BV
designator U?
type: W25X64BV
footprint SOIC-8
pins: 1 CS, 2 SO, 3 WP#, 4 GND, 5 SI, 6 CLK, 7 HOLD, 8 VCC

## XC6220
designator U?
Power
footprint SOT89-3
pins: 1 GND (power), 2 OUT (power), 3 IN (power)

## XPT2046
designator U?
Touch
footprint TSSOP_E170_P0.65_16
pins: 1 VCC, 2 XP, 3 YP, 4 XN, 5 YN, 6 GND, 7 VBAT, 8 AUX, 9 VREF, 10 VDDIO, 11 PENIRQ, 12 DOUT, 13 BUSY, 14 DIN, 15 CS, 16 DCLK